# EAGLE library part CELLMODEM (library P442)
SM5100 cellular modem board from Sparkfun.
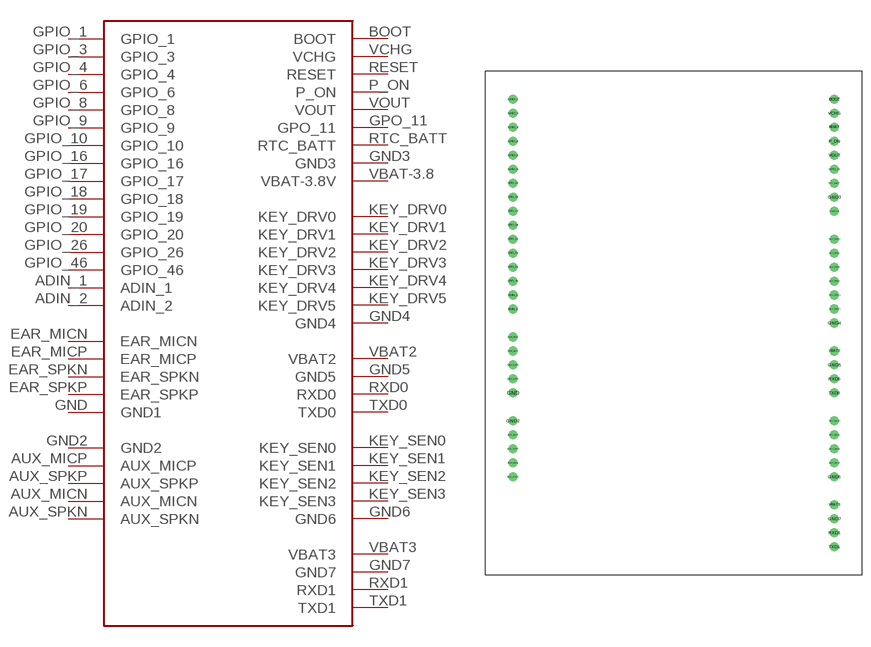
[diagram p12: symbol with the pads of CELLMODEM; footprint CELLMODEM]

Designator prefix -

## CELLMODEM  [CELLMODEM]
ADIN_1  ADIN_1
ADIN_2  ADIN_2
AUX_MICN  AUX_MICN
AUX_MICP  AUX_MICP
AUX_SPKN  AUX_SPKN
AUX_SPKP  AUX_SPKP
BOOT  BOOT
EAR_MICN  EAR_MICN
EAR_MICP  EAR_MICP
EAR_SPKN  EAR_SPKN
EAR_SPKP  EAR_SPKP
GND  GND1
GND2  GND2
GND3  GND3
GND4  GND4
GND5  GND5
GND6  GND6
GND7  GND7
GPIO_1  GPIO_1
GPIO_3  GPIO_3
GPIO_4  GPIO_4
GPIO_6  GPIO_6
GPIO_8  GPIO_8
GPIO_9  GPIO_9
GPIO_10  GPIO_10
GPIO_16  GPIO_16
GPIO_17  GPIO_17
GPIO_18  GPIO_18
GPIO_19  GPIO_19
GPIO_20  GPIO_20
GPIO_26  GPIO_26
GPIO_46  GPIO_46
GPO_11  GPO_11
KEY_DRV0  KEY_DRV0
KEY_DRV1  KEY_DRV1
KEY_DRV2  KEY_DRV2
KEY_DRV3  KEY_DRV3
KEY_DRV4  KEY_DRV4
KEY_DRV5  KEY_DRV5
KEY_SEN0  KEY_SEN0
KEY_SEN1  KEY_SEN1
KEY_SEN2  KEY_SEN2
KEY_SEN3  KEY_SEN3
P_ON  P_ON
RESET  RESET
RTC_BATT  RTC_BATT
RXD0  RXD0
RXD1  RXD1
TXD0  TXD0
TXD1  TXD1
VBAT2  VBAT2
VBAT3  VBAT3
VBAT-3.8  VBAT-3.8V
VCHG  VCHG
VOUT  VOUT

## Footprint CELLMODEM (pad centres in mm)
drill 1.1: ADIN_1 0,-35.56; ADIN_2 0,-38.1; AUX_MICN 0,-66.04; AUX_MICP 0,-60.96; AUX_SPKN 0,-68.58; AUX_SPKP 0,-63.5; BOOT 58.42,0; EAR_MICN 0,-43.18; EAR_MICP 0,-45.72; EAR_SPKN 0,-48.26; EAR_SPKP 0,-50.8; GND 0,-53.34; GND2 0,-58.42; GND3 58.42,-17.78; GND4 58.42,-40.64; GND5 58.42,-48.26; GND6 58.42,-68.58; GND7 58.42,-76.2; GPIO_1 0,0; GPIO_3 0,-2.54; GPIO_4 0,-5.08; GPIO_6 0,-7.62; GPIO_8 0,-10.16; GPIO_9 0,-12.7; GPIO_10 0,-15.24; GPIO_16 0,-17.78; GPIO_17 0,-20.32; GPIO_18 0,-22.86; GPIO_19 0,-25.4; GPIO_20 0,-27.94; GPIO_26 0,-30.48; GPIO_46 0,-33.02; GPO_11 58.42,-12.7; KEY_DRV0 58.42,-25.4; KEY_DRV1 58.42,-27.94; KEY_DRV2 58.42,-30.48; KEY_DRV3 58.42,-33.02; KEY_DRV4 58.42,-35.56; KEY_DRV5 58.42,-38.1; KEY_SEN0 58.42,-58.42; KEY_SEN1 58.42,-60.96; KEY_SEN2 58.42,-63.5; KEY_SEN3 58.42,-66.04; P_ON 58.42,-7.62; RESET 58.42,-5.08; RTC_BATT 58.42,-15.24; RXD0 58.42,-50.8; RXD1 58.42,-78.74; TXD0 58.42,-53.34; TXD1 58.42,-81.28; VBAT2 58.42,-45.72; VBAT3 58.42,-73.66; VBAT-3.8 58.42,-20.32; VCHG 58.42,-2.54; VOUT 58.42,-10.16